# EAGLE library part UCC25640* (library BW-Active)
LLC Resonant Controller
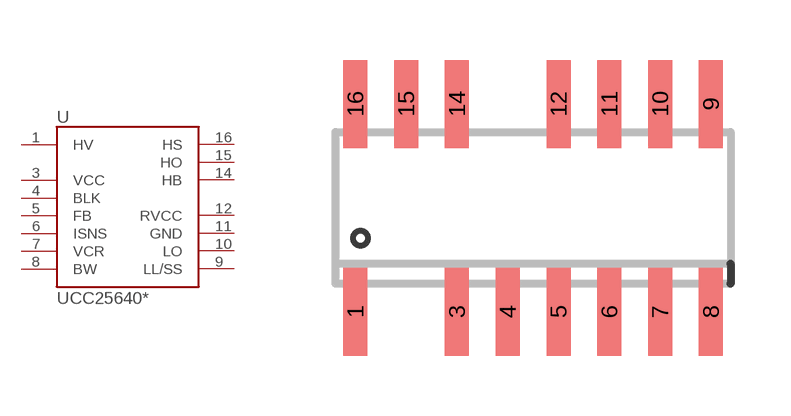
[diagram p28: symbol with the pads of SOIC16-NO2,13; footprint SOIC16-NO2,13]

Designator prefix U

## UCC256402, UCC256402A, UCC256403, UCC256403A, UCC256404, UCC256404A, UCC256404B  [SOIC16-NO2,13]
1  HV
3  VCC
4  BLK
5  FB
6  ISNS
7  VCR
8  BW
9  LL/SS
10  LO
11  GND
12  RVCC
14  HB
15  HO
16  HS

## Footprint SOIC16-NO2,13 (pad centres in mm)
SMALL OUTLINE INTEGRATED CIRCUIT
smd 0.6 x 2.2: 1 -4.445,-2.6; 3 -1.905,-2.6; 4 -0.635,-2.6; 5 0.635,-2.6; 6 1.905,-2.6; 7 3.175,-2.6; 8 4.445,-2.6; 9 4.445,2.6; 10 3.175,2.6; 11 1.905,2.6; 12 0.635,2.6; 14 -1.905,2.6; 15 -3.175,2.6; 16 -4.445,2.6